# EAGLE library part TRAFO-SCHAFFER-KLF-EN-14VA (library 1A-meinLib)
Flachtransformator, KLF-EN, 5,5...14VA, Werner Schaffer Transformatoren GmbH
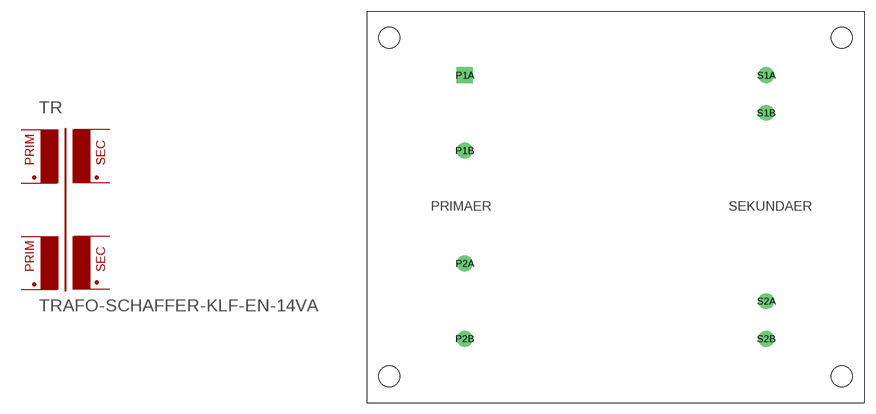
[diagram p111: symbol with the pads of TRAFO-SCHAFFER-KLF-EN-14W; footprint TRAFO-SCHAFFER-KLF-EN-14W]

Designator prefix TR

## TRAFO-SCHAFFER-KLF-EN-14VA  [TRAFO-SCHAFFER-KLF-EN-14W]
P1A  P1A  pas
P1B  P1B  pas
P2A  P2A  pas
P2B  P2B  pas
S1A  S1A  pas
S1B  S1B  pas
S2A  S2A  pas
S2B  S2B  pas

## Footprint TRAFO-SCHAFFER-KLF-EN-14W (pad centres in mm)
drill 1.4 square: P1A -20,17.5
drill 1.4 round: P1B -20,7.5; P2A -20,-7.5; P2B -20,-17.5; S1A 20,17.5; S1B 20,12.5; S2A 20,-12.5; S2B 20,-17.5
hole 2.8 at -30,22.5
hole 2.8 at 30,22.5
hole 2.8 at 30,-22.5
hole 2.8 at -30,-22.5